# Altium footprint library Embedded_Solutions.PcbLib: 3 footprints
Each footprint in its own frame and in the unit in brackets; x right, y up, seen from the top. Pads: shape width x height; smd on the part's side, far side on the other; paste and mask are expansions set on the pad; w line width, h text height; cw(c..) or ccw(c..) is an arc to the next point about the centre after c.
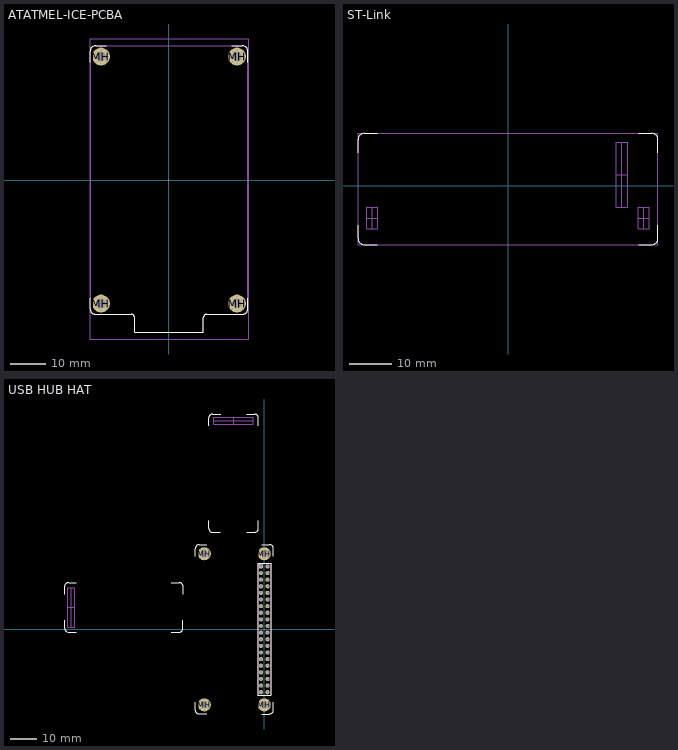
[diagram p0: the footprints below, top view; thin cyan lines are the x and y axes]

## ATATMEL-ICE-PCBA [mm]
pads (36):
  round 0.65 hole 0.3 mask+0.102: MH(-20.9,-34.5) MH(-20.9,34.5) MH(-20.344,-35.844) MH(-20.344,-33.156) MH(-20.344,33.156) MH(-20.344,35.844) MH(-19,-36.4) MH(-19,-32.6) MH(-19,32.6) MH(-19,36.4) MH(-17.656,-35.844) MH(-17.656,-33.156) MH(-17.656,33.156) MH(-17.656,35.844) MH(-17.1,-34.5) MH(-17.1,34.5) MH(17.1,-34.5) MH(17.1,34.5) MH(17.656,-35.844) MH(17.656,-33.156) MH(17.656,33.156) MH(17.656,35.844) MH(19,-36.4) MH(19,-32.6) MH(19,32.6) MH(19,36.4) MH(20.344,-35.844) MH(20.344,-33.156) MH(20.344,33.156) MH(20.344,35.844) MH(20.9,-34.5) MH(20.9,34.5)
  round 5 hole 2.7: MH(-19,-34.5) MH(-19,34.5) MH(19,-34.5) MH(19,34.5)
Top Overlay:
  lines w0.153: -22,-33 -22,-36 ccw(c-20.5,-36) -20.5,-37.5 -10.6,-37.5 cw(c-10.6,-38.5) -9.6,-38.5 -9.6,-42.5 9.6,-42.5 9.6,-38.5 cw(c10.6,-38.5) 10.6,-37.5 20.5,-37.5 ccw(c20.5,-36) 22,-36 22,-33 ; -22,32.975 -22,36 cw(c-20.5,36) -20.5,37.5 -17.5,37.5 ; 17.5,37.5 20.5,37.5 cw(c20.5,36) 22,36 22,32.975
Top Assembly:
  lines w0.1: -22,-36 ccw(c-20.5,-36) -20.5,-37.5 -10.6,-37.5 cw(c-10.6,-38.5) -9.6,-38.5 -9.6,-42.5 9.6,-42.5 9.6,-38.5 cw(c10.6,-38.5) 10.6,-37.5 20.5,-37.5 ccw(c20.5,-36) 22,-36 22,-33 22,32.975 22,36 ccw(c20.5,36) 20.5,37.5 17.5,37.5 -17.5,37.5 -20.5,37.5 ccw(c-20.5,36) -22,36 -22,32.975 -22,-33 -22,-36
  text "'.Designator'" at -4.532,-0.333 h0.8
Top Courtyard:
  lines w0.153: -0.3,0 0.3,0 ; 0,-0.3 0,0.3 ; -22.1,-44.4 -22.1,39.4 22.1,39.4 22.1,-44.4 -22.1,-44.4
3D body "Atmel-ICE v8.step": height 27.19, standoff 0, extent -22,-44.3 22,39.3

## ST-Link [mm]
Top Overlay:
  lines w0.153: -35.1,-9.3 -35.1,-12.3 ccw(c-33.6,-12.3) -33.6,-13.8 -30.6,-13.8 ; -35.1,7.7 -35.1,10.7 cw(c-33.6,10.7) -33.6,12.2 -30.6,12.2 ; 30.6,-13.8 33.6,-13.8 ccw(c33.6,-12.3) 35.1,-12.3 35.1,-9.3 ; 30.6,12.2 33.6,12.2 cw(c33.6,10.7) 35.1,10.7 35.1,7.7
Mechanical 1:
  lines w0.1: -33.05,-7.62 -30.45,-7.62 ; -31.75,-10.14 -31.75,-5.1 ; 25.37,2.54 27.97,2.54 ; 26.67,-5.06 26.67,10.14 ; 30.45,-7.62 33.05,-7.62 ; 31.75,-10.14 31.75,-5.1 ; -33.05,-10.14 -30.45,-10.14 -30.45,-5.1 -33.05,-5.1 -33.05,-10.14 ; 25.37,-5.06 27.97,-5.06 27.97,10.14 25.37,10.14 25.37,-5.06 ; 30.45,-10.14 33.05,-10.14 33.05,-5.1 30.45,-5.1 30.45,-10.14
Top Assembly:
  text "'.Designator'" at -4.532,-0.333 h0.8
Top Courtyard:
  lines w0.153: -35.1,-13.8 35.1,-13.8 35.1,12.2 -35.1,12.2 -35.1,-13.8
3D body "NUCLEO-ST-Link v5.step": height 15.47, standoff 2.9, extent -34.98,-13.716 35.02,12.149

## USB HUB HAT [mm]
pads (76):
  rrect50% 1.6x1.6 hole 1: 1(-1.27,24.13)
  round 1.6 hole 1: 2(1.27,24.13) 3(-1.27,21.59) 4(1.27,21.59) 5(-1.27,19.05) 6(1.27,19.05) 7(-1.27,16.51) 8(1.27,16.51) 9(-1.27,13.97) 10(1.27,13.97) 11(-1.27,11.43) 12(1.27,11.43) 13(-1.27,8.89) 14(1.27,8.89) 15(-1.27,6.35) 16(1.27,6.35) 17(-1.27,3.81) 18(1.27,3.81) 19(-1.27,1.27) 20(1.27,1.27) 21(-1.27,-1.27) 22(1.27,-1.27) 23(-1.27,-3.81) 24(1.27,-3.81) 25(-1.27,-6.35) 26(1.27,-6.35) 27(-1.27,-8.89) 28(1.27,-8.89) 29(-1.27,-11.43) 30(1.27,-11.43) 31(-1.27,-13.97) 32(1.27,-13.97) 33(-1.27,-16.51) 34(1.27,-16.51) 35(-1.27,-19.05) 36(1.27,-19.05) 37(-1.27,-21.59) 38(1.27,-21.59) 39(-1.27,-24.13) 40(1.27,-24.13)
  round 0.65 hole 0.3 mask+0.102: MH(-24.9,-29) MH(-24.9,29) MH(-24.344,-30.344) MH(-24.344,-27.656) MH(-24.344,27.656) MH(-24.344,30.344) MH(-23,-30.9) MH(-23,-27.1) MH(-23,27.1) MH(-23,30.9) MH(-21.656,-30.344) MH(-21.656,-27.656) MH(-21.656,27.656) MH(-21.656,30.344) MH(-21.1,-29) MH(-21.1,29) MH(-1.9,-29) MH(-1.9,29) MH(-1.344,-30.344) MH(-1.344,-27.656) MH(-1.344,27.657) MH(-1.344,30.344) MH(0,-30.9) MH(0,-27.1) MH(0,27.1) MH(0,30.9) MH(1.344,-30.344) MH(1.344,-27.656) MH(1.344,27.657) MH(1.344,30.344) MH(1.9,-29) MH(1.9,29)
  round 5 hole 2.7: MH(-23,-29) MH(-23,29) MH(0,-29) MH(0,29)
Top Overlay:
  lines w0.153: -76.625,3.425 -76.625,0.425 ccw(c-75.125,0.425) -75.125,-1.075 -72.125,-1.075 ; -76.6,13.45 -76.6,16.45 cw(c-75.1,16.45) -75.1,17.95 -72.1,17.95 ; -35.7,-1.1 -32.7,-1.1 ccw(c-32.7,0.4) -31.2,0.4 -31.2,3.4 ; -35.675,17.925 -32.675,17.925 cw(c-32.675,16.425) -31.175,16.425 -31.175,13.425 ; -26.5,-28 -26.5,-31 ccw(c-25,-31) -25,-32.5 -22,-32.5 ; -26.5,28 -26.5,31 cw(c-25,31) -25,32.5 -22,32.5 ; -21.3,41.7 -21.3,38.7 ccw(c-19.8,38.7) -19.8,37.2 -16.8,37.2 ; -21.275,78.125 -21.275,81.125 cw(c-19.775,81.125) -19.775,82.625 -16.775,82.625 ; -6.775,37.175 -3.775,37.175 ccw(c-3.775,38.675) -2.275,38.675 -2.275,41.675 ; -6.75,82.6 -3.75,82.6 cw(c-3.75,81.1) -2.25,81.1 -2.25,78.1 ; -1,-32.5 2,-32.5 ccw(c2,-31) 3.5,-31 3.5,-28 ; -1,32.5 2,32.5 cw(c2,31) 3.5,31 3.5,28 ; -2.6,-25.4 2.5,-25.4 2.5,25.4 -2.6,25.4 -2.6,-25.4
Mechanical 1:
  lines w0.1: -75.35,8.425 -72.75,8.425 ; -74.05,0.825 -74.05,16.025 ; -19.375,80.05 -4.175,80.05 ; -11.775,78.75 -11.775,81.35 ; -75.35,0.825 -75.35,16.025 -72.75,16.025 -72.75,0.825 -75.35,0.825 ; -19.375,78.75 -19.375,81.35 -4.175,81.35 -4.175,78.75 -19.375,78.75
Top Assembly:
  region: -2.6,25.4 -0.3,25.4 -2.6,23.1
  lines w0.1: -2.6,-25.4 -2.6,25.4 2.5,25.4 2.5,-25.4 -2.6,-25.4
  text "'.Designator'" at 0.333,-4.532 h0.8
Top Courtyard:
  lines w0.153: -0.3,0 0.3,0 ; 0,-0.3 0,0.3 ; -2.6,-25.4 -2.6,25.39 2.5,25.39 2.5,-25.4 -2.6,-25.4
3D body "4 Port USB HUB HAT RPI v6.step": height 19.88, standoff 2.66, extent -26.9,-32.484 3.5,32.516